# EAGLE library part 1586042-8 (library BMS Lbr)
1586042-8 8 pin Val-U-Lock TPA
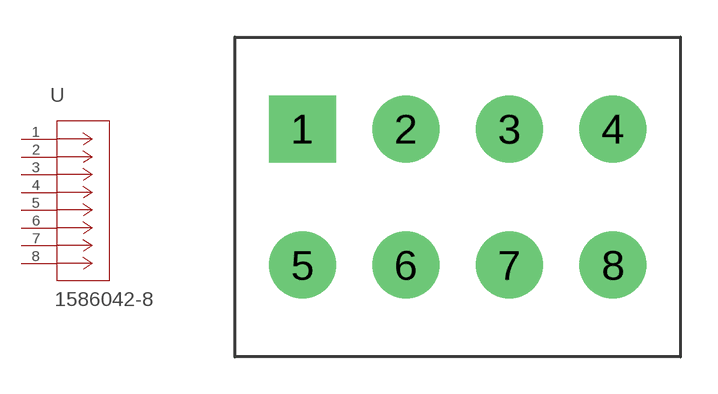
[diagram p11: symbol with the pads of 1586042-8; footprint 1586042-8]

Designator prefix -

## 1586042-8  [1586042-8]
1  1  pas
2  2  pas
3  3  pas
4  4  pas
5  5  pas
6  6  pas
7  7  pas
8  8  pas

## Footprint 1586042-8 (pad centres in mm)
drill 1.803 square: 1 -6.287,2.756
drill 1.803: 2 -2.095,2.756; 3 2.095,2.756; 4 6.287,2.756; 5 -6.287,-2.756; 6 -2.095,-2.756; 7 2.095,-2.756; 8 6.287,-2.756